# Altium footprint library PcbLib.PcbLib: 71 footprints (part 3 of 6)
Each footprint in its own frame and in the unit in brackets; x right, y up, seen from the top. Pads: shape width x height; smd on the part's side, far side on the other; paste and mask are expansions set on the pad; w line width, h text height; cw(c..) or ccw(c..) is an arc to the next point about the centre after c.
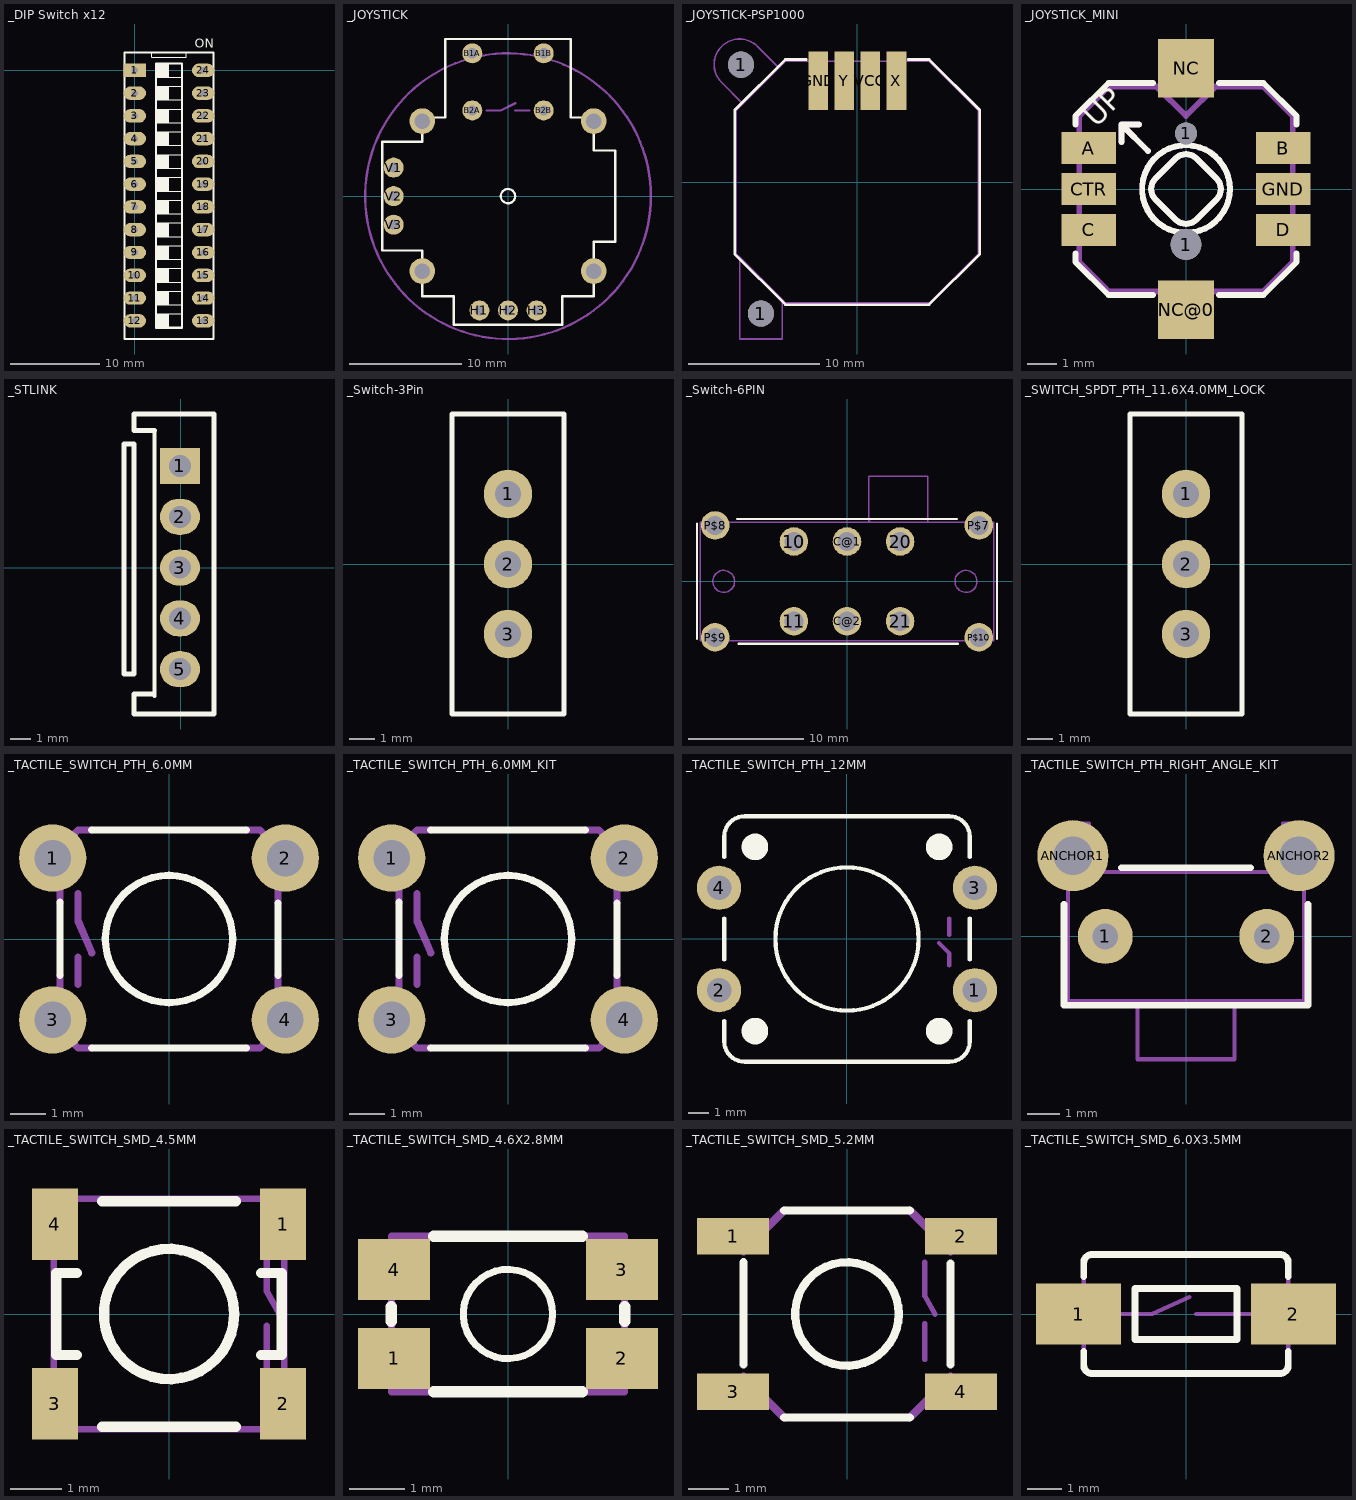
[diagram p2: the footprints below, top view; thin cyan lines are the x and y axes]

## _DIP Switch x12 [mm]
pads (24):
  rect 2.5x1.5 hole 0.7: 1(0,0)
  oval 2.5x1.5 hole 0.7: 2(0,-2.54) 3(0,-5.08) 4(0,-7.62) 5(0,-10.16) 6(0,-12.7) 7(0,-15.24) 8(0,-17.78) 9(0,-20.32) 10(0,-22.86) 11(0,-25.4) 12(0,-27.94) 13(7.62,-27.94) 14(7.62,-25.4) 15(7.62,-22.86) 16(7.62,-20.32) 17(7.62,-17.78) 18(7.62,-15.24) 19(7.62,-12.7) 20(7.62,-10.16) 21(7.62,-7.62) 22(7.62,-5.08) 23(7.62,-2.54) 24(7.62,0)
Top Overlay:
  region: 3.808,0.762 2.362,0.762 2.362,-0.762 3.808,-0.762
  region: 3.808,-1.778 2.362,-1.778 2.362,-3.302 3.808,-3.302
  region: 3.808,-4.318 2.362,-4.318 2.362,-5.842 3.808,-5.842
  region: 3.808,-6.858 2.362,-6.858 2.362,-8.382 3.808,-8.382
  region: 3.808,-9.398 2.362,-9.398 2.362,-10.922 3.808,-10.922
  region: 3.808,-11.938 2.362,-11.938 2.362,-13.462 3.808,-13.462
  region: 3.808,-14.478 2.362,-14.478 2.362,-16.002 3.808,-16.002
  region: 3.808,-17.018 2.362,-17.018 2.362,-18.542 3.808,-18.542
  region: 3.808,-19.558 2.362,-19.558 2.362,-21.082 3.808,-21.082
  region: 3.808,-22.098 2.362,-22.098 2.362,-23.622 3.808,-23.622
  region: 3.808,-24.638 2.362,-24.638 2.362,-26.162 3.808,-26.162
  region: 3.808,-27.178 2.362,-27.178 2.362,-28.702 3.808,-28.702
  lines w0.1: 2.362,-28.702 5.253,-28.702 ; 2.362,-27.178 5.253,-27.178 ; 2.362,-26.162 5.253,-26.162 ; 2.362,-24.638 5.253,-24.638 ; 2.362,-23.622 5.253,-23.622 ; 2.362,-22.098 5.253,-22.098 ; 2.362,-21.082 5.253,-21.082 ; 2.362,-19.558 5.253,-19.558 ; 2.362,-18.542 5.253,-18.542 ; 2.362,-17.018 5.253,-17.018 ; 2.362,-16.002 5.253,-16.002 ; 2.362,-14.478 5.253,-14.478 ; 2.362,-13.462 5.253,-13.462 ; 2.362,-11.938 5.253,-11.938 ; 2.362,-10.922 5.253,-10.922 ; 2.362,-9.398 5.253,-9.398 ; 2.362,-8.382 5.253,-8.382 ; 2.362,-6.858 5.253,-6.858 ; 2.362,-5.842 5.253,-5.842 ; 2.362,-4.318 5.253,-4.318 ; 2.362,-3.302 5.253,-3.302 ; 2.362,-1.778 5.253,-1.778 ; 2.362,-0.762 5.253,-0.762
  lines w0.127: 1.9,1.981 1.9,1.473 5.71,1.473 5.71,1.981
  lines w0.2: -1.143,-29.972 -1.143,1.981 8.763,1.981 8.763,-29.972 -1.143,-29.972
  lines w0.254: 2.362,-28.702 5.253,-28.702 5.253,0.762 2.362,0.762 2.362,-28.702
  text "ON" at 6.7,2.5 h1
Mechanical 1:
  circle w0.025: c0,-17.78 r0.254
  circle w0.025: c7.62,-17.78 r0.254
  circle w0.025: c0,-15.24 r0.254
  circle w0.025: c0,-12.7 r0.254
  circle w0.025: c7.62,-12.7 r0.254
  circle w0.025: c7.62,-10.16 r0.254
  circle w0.025: c0,-10.16 r0.254
  circle w0.025: c0,0 r0.254
  circle w0.025: c-0.01,-2.54 r0.254
  circle w0.025: c0,-5.08 r0.254
  circle w0.025: c0,-7.62 r0.254
  circle w0.025: c7.62,-7.62 r0.254
  circle w0.025: c7.62,-5.08 r0.254
  circle w0.025: c7.62,-2.54 r0.254
  circle w0.025: c7.62,0 r0.254
3D body: height 0.76, standoff 0, extent 7.367,-20.573 7.873,-20.067
3D body: height 0.76, standoff 0, extent 7.367,-23.113 7.873,-22.607
3D body: height 0.76, standoff 0, extent 7.367,-25.653 7.873,-25.147
3D body: height 0.76, standoff 0, extent 7.367,-28.193 7.873,-27.687
3D body: height 0.76, standoff 0, extent -0.253,-28.193 0.253,-27.687
3D body: height 0.76, standoff 0, extent -0.253,-25.653 0.253,-25.147
3D body: height 0.76, standoff 0, extent -0.253,-23.113 0.253,-22.607
3D body: height 0.76, standoff 0, extent -0.253,-20.573 0.253,-20.067
3D body: height 0.76, standoff 0, extent -0.253,-18.033 0.253,-17.527
3D body: height 0.76, standoff 0, extent -0.253,-15.493 0.253,-14.987
3D body: height 0.76, standoff 0, extent -0.253,-12.953 0.253,-12.447
3D body: height 0.76, standoff 0, extent -0.253,-10.413 0.253,-9.907
3D body: height 0.76, standoff 0, extent 7.367,-12.953 7.873,-12.447
3D body: height 0.76, standoff 0, extent 7.367,-18.033 7.873,-17.527
3D body: height 0.76, standoff 0, extent 7.367,-15.493 7.873,-14.987
3D body: height 6.35, standoff 0.25, extent 2.362,-0.762 3.073,0.762
3D body: height 0.76, standoff 0, extent 7.367,-0.253 7.873,0.253
3D body: height 0.76, standoff 0, extent 7.367,-2.793 7.873,-2.287
3D body: height 0.76, standoff 0, extent 7.367,-5.333 7.873,-4.827
3D body: height 0.76, standoff 0, extent 7.367,-7.873 7.873,-7.367
3D body: height 0.76, standoff 0, extent -0.253,-0.253 0.253,0.253
3D body: height 0.76, standoff 0, extent -0.263,-2.793 0.243,-2.287
3D body: height 0.76, standoff 0, extent -0.253,-5.333 0.253,-4.827
3D body: height 0.76, standoff 0, extent -0.253,-7.873 0.253,-7.367
3D body: height 6.35, standoff 0.25, extent 2.362,-5.842 3.073,-4.318
3D body: height 6.35, standoff 0.25, extent 2.362,-8.382 3.073,-6.858
3D body: height 6.35, standoff 0.25, extent 2.362,-3.302 3.073,-1.778
3D body: height 6.35, standoff 0.25, extent 2.362,-10.922 3.073,-9.398
3D body: height 6.35, standoff 0.25, extent 2.362,-13.462 3.073,-11.938
3D body: height 6.35, standoff 0.25, extent 2.362,-16.002 3.073,-14.478
3D body: height 6.35, standoff 0.25, extent 2.362,-18.542 3.073,-17.018
3D body: height 6.35, standoff 0.25, extent 2.362,-21.082 3.073,-19.558
3D body: height 6.35, standoff 0.25, extent 2.362,-23.622 3.073,-22.098
3D body: height 6.35, standoff 0.25, extent 2.362,-26.162 3.073,-24.638
3D body: height 6.35, standoff 0.25, extent 2.362,-28.702 3.073,-27.178
3D body: height 5.59, standoff 0.25, extent 6.005,-0.662 7.579,0.956
3D body: height 5.59, standoff 0.03, extent 6.09,-0.254 7.507,0.554
3D body: height 5.59, standoff 0.25, extent 6.015,-2.365 7.567,-0.799

## _JOYSTICK [mil]
pads (14):
  round 70 hole 35.43: B1A(-125,500) B1B(125,500) B2A(-125,300) B2B(125,300)
  round 70 hole 35: H1(-100,-400) H2(0,-400) H3(100,-400) V1(-400,100) V2(-400,0) V3(-400,-100)
  round 90 hole 55: MOUNT1(-300,262.5) MOUNT2(-300,-262.5) MOUNT3(300,-262.5) MOUNT4(300,262.5)
Top Overlay:
  circle w8: c0,0 r25
  lines w8: -440,-190 -300,-190 -300,-350 -190,-350 -190,-450 190,-450 190,-350 300,-350 300,-160 375,-160 375,160 300,160 300,275 220,275 220,550 -220,550 -220,275 -300,275 -300,190 -440,190 -440,-190
Mechanical 16:
  circle w8: c0,0 r500
  lines w8: -75,300 -25,300 25,325 ; 25,300 75,300

## _JOYSTICK-PSP1000 [mm]
pads (6):
  round 2 hole 2: 1(-8.89,8.985) 1(-7.375,-10.06)
  rect 1.5x4.5 smd: GND(-3,7.75) VCC(1,7.75) X(3,7.75) Y(-1,7.75)
Top Overlay:
  lines w0.203: -3.898,9.377 -5.5,9.377 -9.377,5.5 -9.377,-5.5 -5.5,-9.377 5.5,-9.377 9.377,-5.5 9.377,5.5 5.5,9.377 3.898,9.377
Mechanical 16:
  lines w0.127: -10.4,7.658 -8.75,6 ; -10.381,7.631 cw(c-9.006,9.006) -7.631,10.381 ; -7.65,10.408 -6,8.75 ; -9,-5.75 -9,-12 -5.75,-12 -5.75,-9 ; -9,-5.75 -5.75,-9 ; -9,-5.75 -9.25,-5.5 -9.25,5.5 -8.75,6 ; -8.75,6 -6,8.75 ; -6,8.75 -5.5,9.25 5.5,9.25 9.25,5.5 9.25,-5.5 5.5,-9.25 -5.5,-9.25 -5.75,-9

## _JOYSTICK_MINI [mm]
pads (10):
  round 1.05 hole 1.05: 1(0,-1.9)
  round 0.75 hole 0.75: 1(0,1.9)
  rect 1.85x1.1 smd: A(-3.325,1.4) B(3.325,1.4) C(-3.325,-1.4) CTR(-3.325,0) D(3.325,-1.4) GND(3.325,0)
  rect 1.9x2 smd: NC(0,4.13) NC@0(0,-4.13)
Top Overlay:
  circle w0.203: c0,0 r1.5
  lines w0.203: -3.777,-2.199 -3.777,-2.5 -2.65,-3.627 -1.127,-3.627 ; -3.777,2.199 -3.777,2.5 -2.65,3.627 -1.127,3.627 ; -2.2,1.6 -2.2,2.2 ; -1.6,2.2 -2.2,2.2 ; -1.3,1.3 -2.2,2.2 ; 1.127,-3.627 2.65,-3.627 3.777,-2.5 3.777,-2.199 ; 1.127,3.627 2.65,3.627 3.777,2.5 3.777,2.199 ; -1.046,-0.354 cw(c-0.693,0) -1.046,0.354 -0.354,1.046 cw(c0,0.693) 0.354,1.046 1.046,0.354 cw(c0.693,0) 1.046,-0.354 0.354,-1.046 cw(c0,-0.693) -0.354,-1.046 -1.046,-0.354
  text "UP" at -2.9,1.9 h1.26
Mechanical 16:
  circle w0.203: c0,0 r1.5
  lines w0.203: -2.2,1.6 -2.2,2.2 ; -1.6,2.2 -2.2,2.2 ; -1.3,1.3 -2.2,2.2 ; -1,3.5 1,3.5 ; -1,3.5 0,2.5 1,3.5 ; -1,3.5 -2.65,3.5 -3.65,2.5 -3.65,-2.5 -2.65,-3.5 2.65,-3.5 3.65,-2.5 3.65,2.5 2.65,3.5 1,3.5 ; -1.046,-0.354 cw(c-0.693,0) -1.046,0.354 -0.354,1.046 cw(c0,0.693) 0.354,1.046 1.046,0.354 cw(c0.693,0) 1.046,-0.354 0.354,-1.046 cw(c0,-0.693) -0.354,-1.046 -1.046,-0.354
  text "UP" at -2.9,1.9 h1.26

## _STLINK [mm]
pads (5):
  rect 2x1.8 hole 1.1: 1(-0.025,5.08)
  oval 2x1.8 hole 1.1: 2(-0.025,2.54) 3(-0.025,0) 4(-0.025,-2.54) 5(-0.025,-5.08)
Top Overlay:
  lines w0.2: -1.295,-6.42 -1.295,4.945 -1.295,6.85
  lines w0.25: -1.325,-6.32 -2.325,-6.32 -2.325,-7.32 1.675,-7.32 1.675,7.68 -2.325,7.68 -2.325,6.85 -1.295,6.85 ; -2.825,-5.32 -2.325,-5.32 -2.325,6.18 -2.825,6.18 -2.825,-5.32

## _Switch-3Pin [mil]
pads (3):
  round 74 hole 40: 1(0,107) 2(0,0) 3(0,-107)
Top Overlay:
  lines w8: -85.63,-228.94 -85.63,228.94 85.63,228.94 85.63,-228.94 -85.63,-228.94
Top Solder:
  region: 0,89.6 -3.4,89.52 -9.75,91.98 -14.67,96.67 -17.42,102.9 -17.5,106.3 -17.59,109.87 -15.02,116.54 -10.1,121.71 -3.57,124.61 0,124.7 3.52,124.64 9.98,121.84 14.88,116.77 17.46,110.22 17.4,106.7 17.37,103.27 14.69,96.95 9.79,92.14 3.43,89.57
  region: 0.1,-124.6 -3.3,-124.68 -9.65,-122.22 -14.57,-117.53 -17.32,-111.3 -17.4,-107.9 -17.49,-104.33 -14.92,-97.66 -10,-92.49 -3.47,-89.59 0.1,-89.5 3.62,-89.56 10.08,-92.36 14.98,-97.43 17.56,-103.98 17.5,-107.5 17.47,-110.93 14.79,-117.25 9.89,-122.06 3.53,-124.63
  region: 0.4,-17.6 -3,-17.68 -9.35,-15.22 -14.27,-10.53 -17.02,-4.3 -17.1,-0.9 -17.19,2.67 -14.62,9.34 -9.7,14.51 -3.17,17.41 0.4,17.5 3.92,17.44 10.38,14.64 15.28,9.57 17.86,3.02 17.8,-0.5 17.77,-3.93 15.09,-10.25 10.19,-15.06 3.83,-17.63
Bottom Solder:
  region: -0.7,72.5 -4.03,72.49 -10.56,73.77 -16.72,76.3 -22.27,79.98 -26.99,84.67 -30.7,90.2 -33.27,96.34 -34.58,102.87 -34.59,106.2 -34.62,109.63 -33.35,116.38 -30.79,122.75 -27.04,128.49 -22.23,133.39 -16.56,137.27 -10.25,139.96 -3.53,141.37 -0.1,141.4 3.33,141.37 10.05,139.96 16.37,137.27 22.04,133.4 26.84,128.49 30.6,122.75 33.16,116.38 34.43,109.63 34.4,106.2 34.33,102.81 32.88,96.19 30.16,89.98 26.28,84.42 21.39,79.73 15.68,76.08 9.36,73.62 2.69,72.43
  region: -0.2,-141.6 -3.55,-141.64 -10.13,-140.41 -16.35,-137.92 -21.96,-134.27 -26.76,-129.59 -30.54,-124.06 -33.18,-117.9 -34.56,-111.35 -34.6,-108 -34.63,-104.51 -33.33,-97.66 -30.72,-91.2 -26.89,-85.36 -22,-80.39 -16.24,-76.47 -9.82,-73.75 -2.99,-72.33 0.5,-72.3 3.94,-72.37 10.67,-73.86 16.97,-76.63 22.61,-80.58 27.38,-85.55 31.08,-91.36 33.58,-97.78 34.77,-104.56 34.7,-108 34.64,-111.37 33.2,-117.97 30.5,-124.15 26.64,-129.69 21.78,-134.37 16.1,-138.01 9.82,-140.48 3.17,-141.67
  region: -0.4,-34.4 -3.73,-34.43 -10.28,-33.17 -16.46,-30.67 -22.04,-27 -26.79,-22.32 -30.53,-16.81 -33.13,-10.66 -34.48,-4.13 -34.5,-0.8 -34.52,2.67 -33.19,9.49 -30.56,15.92 -26.73,21.71 -21.84,26.64 -16.08,30.52 -9.68,33.2 -2.87,34.59 0.6,34.6 3.98,34.55 10.6,33.12 16.81,30.43 22.38,26.58 27.09,21.72 30.76,16.04 33.25,9.74 34.46,3.08 34.41,-0.3 34.38,-3.69 32.98,-10.34 30.32,-16.58 26.5,-22.19 21.65,-26.94 15.96,-30.65 9.66,-33.18 2.99,-34.44
Mechanical 16:
  rectangle: -9,-12 9,12
  rectangle: -9,88 9,112
  rectangle: -9,-112 9,-88

## _Switch-6PIN [mm]
pads (10):
  round 2.475 hole 1.65: 10(-4.6,3.455) 11(-4.6,-3.455) 20(4.6,3.455) 21(4.6,-3.455) C@1(0,3.455) C@2(0,-3.455) P$7(11.43,4.85) P$8(-11.43,4.85) P$9(-11.43,-4.85) P$10(11.43,-4.85)
Top Overlay:
  lines w0.203: -13,-5 -13,5 ; -9.5,5.4 9.5,5.4 ; -9.4,-5.4 9.6,-5.4 ; 13,-5 13,5
Mechanical 16:
  circle w0.127: c10.31,0 r0.952
  circle w0.127: c-10.69,0 r0.952
  lines w0.127: 2,5.2 1.9,5.2 1.9,9.1 7,9.1 7,5.2 ; -12.7,-5.13 -12.7,5.13 12.7,5.13 12.7,-5.13 -12.7,-5.13

## _SWITCH_SPDT_PTH_11.6X4.0MM_LOCK [mil]
pads (3):
  round 74 hole 40: 1(0,107) 2(0,0) 3(0,-107)
Top Overlay:
  lines w8: -85.63,-228.94 -85.63,228.94 85.63,228.94 85.63,-228.94 -85.63,-228.94
Mechanical 16:
  rectangle: -9,-12 9,12
  rectangle: -9,88 9,112
  rectangle: -9,-112 9,-88

## _TACTILE_SWITCH_PTH_6.0MM [mil]
pads (4):
  round 74 hole 40: 1(-128,89) 2(128,89) 3(-128,-89) 4(128,-89)
Top Overlay:
  circle w8: c0,0 r70
  lines w8: -120,-40 -120,40.47 ; -85,-120 85,-120 ; -85,120 85,120 ; 120,-40 120,39.29
Mechanical 16:
  lines w8: -120,-40 -120,-100 -100,-120 -85,-120 ; -120,40 -120,100 -100,120 -85,120 ; -100,-50 -100,-20 ; -100,50 -100,20 -85,-15 ; 85,-120 100,-120 120,-100 120,-40 ; 85,120 100,120 120,100 120,40

## _TACTILE_SWITCH_PTH_6.0MM_KIT [mil]
pads (4):
  round 74 hole 40: 1(-128,89) 2(128,89) 3(-128,-89) 4(128,-89)
Top Overlay:
  circle w8: c0,0 r70
  lines w8: -120,-40 -120,40.47 ; -85,-120 85,-120 ; -85,120 85,120 ; 120,-40 120,39.29
Top Solder:
  region: 128.4,-71.8 127.9,-71.7 124.53,-71.71 118.31,-74.31 113.55,-79.09 110.99,-85.33 111,-88.7 111,-89.1 110.96,-92.52 113.51,-98.87 118.29,-103.77 124.58,-106.46 128,-106.5 129.2,-106.6 132.58,-106.48 138.74,-103.67 143.35,-98.72 145.72,-92.38 145.6,-89 145.6,-89.2 145.62,-85.76 143.02,-79.38 138.18,-74.49 131.84,-71.82
  region: -127.6,-71.9 -128.1,-71.8 -131.47,-71.81 -137.69,-74.41 -142.45,-79.19 -145.01,-85.43 -145,-88.8 -145,-89.2 -145.04,-92.62 -142.49,-98.97 -137.71,-103.86 -131.42,-106.55 -128,-106.59 -126.8,-106.7 -123.42,-106.58 -117.26,-103.77 -112.64,-98.82 -110.28,-92.47 -110.4,-89.09 -110.4,-89.3 -110.38,-85.86 -112.98,-79.48 -117.81,-74.59 -124.16,-71.92
  region: 128.4,106.3 127.9,106.4 124.53,106.39 118.31,103.79 113.55,99.01 110.99,92.77 111,89.4 111,89 110.96,85.58 113.51,79.23 118.29,74.34 124.58,71.65 128,71.61 129.2,71.5 132.58,71.62 138.74,74.43 143.36,79.38 145.72,85.73 145.6,89.11 145.6,88.9 145.62,92.34 143.02,98.72 138.18,103.61 131.84,106.28
  region: -127.8,106.4 -128.3,106.5 -131.67,106.49 -137.89,103.89 -142.65,99.11 -145.21,92.87 -145.2,89.5 -145.2,89.1 -145.24,85.68 -142.69,79.33 -137.91,74.43 -131.62,71.74 -128.2,71.7 -127,71.6 -123.62,71.72 -117.46,74.53 -112.85,79.48 -110.48,85.82 -110.6,89.2 -110.6,89 -110.58,92.44 -113.18,98.82 -118.02,103.71 -124.36,106.38
Bottom Solder:
  drawing of 4 lines, arcs and shapes, not listed
Mechanical 16:
  lines w8: -120,-40 -120,-100 -100,-120 -85,-120 ; -120,40 -120,100 -100,120 -85,120 ; -100,-50 -100,-20 ; -100,50 -100,20 -85,-15 ; 85,-120 100,-120 120,-100 120,-40 ; 85,120 100,120 120,100 120,40

## _TACTILE_SWITCH_PTH_12MM [mil]
pads (4):
  round 85 hole 47.24: 1(246.06,-98.43) 2(-246.06,-98.43) 3(246.06,98.43) 4(-246.06,98.43)
Top Overlay:
  circle w8: c0,0 r137.8
  circle w27.56: c-177.17,177.17 r11.81
  circle w27.56: c177.17,177.17 r11.81
  circle w27.56: c177.17,-177.17 r11.81
  circle w27.56: c-177.17,-177.17 r11.81
  lines w8: -236.22,-157.48 -236.22,-196.85 ccw(c-196.85,-196.85) -196.85,-236.22 196.85,-236.22 ccw(c196.85,-196.85) 236.22,-196.85 236.22,-157.48 ; -236.22,-39.37 -236.22,39.37 ; -236.22,157.48 -236.22,196.85 cw(c-196.85,196.85) -196.85,236.22 196.85,236.22 cw(c196.85,196.85) 236.22,196.85 236.22,157.48 ; 236.22,-39.37 236.22,39.37
Mechanical 16:
  lines w8: 177.17,-7.87 196.85,-27.56 196.85,-51.18 ; 196.85,7.87 196.85,39.37

## _TACTILE_SWITCH_PTH_RIGHT_ANGLE_KIT [mil]
pads (4):
  round 66.93 hole 31.5: 1(-98.43,0) 2(98.43,0)
  round 86.61 hole 47.24: ANCHOR1(-137.8,98.43) ANCHOR2(137.8,98.43)
Top Overlay:
  lines w8: -148.7,39.37 -148.7,-83.74 148.7,-83.74 148.7,39.37 ; -78.74,83.74 78.74,83.74
Top Solder:
  circle w0: c98.43,0 r17.5
  circle w0: c-98.43,0 r17.5
  circle w0: c-137.8,98.43 r25
  circle w0: c137.8,98.43 r25
Bottom Solder:
  circle w0: c-137.8,98.43 r45
  circle w0: c98.43,0 r35
  circle w0: c-98.43,0 r35
  circle w0: c137.8,98.43 r45
Mechanical 16:
  lines w5: -59.06,-78.74 -143.7,-78.74 -143.7,137.8 -118.11,137.8 -118.11,78.74 118.11,78.74 118.11,137.8 143.7,137.8 143.7,-78.74 59.06,-78.74 ; -59.06,-78.74 59.06,-78.74 ; -59.06,-78.74 -59.06,-149.61 59.06,-149.61 59.06,-78.74

## _TACTILE_SWITCH_SMD_4.5MM [mm]
pads (4):
  rect 0.9x1.4 smd: 1(2.225,1.75) 2(2.225,-1.75) 3(-2.225,-1.75) 4(-2.225,1.75)
Top Overlay:
  circle w0.203: c0,0 r1.27
  lines w0.203: -1.8,-0.8 -2.2,-0.8 -2.2,0.8 -1.8,0.8 ; -1.3,-2.2 1.3,-2.2 ; -1.3,2.2 1.3,2.2 ; 1.8,-0.8 2.2,-0.8 2.2,0.8 1.8,0.8
Mechanical 16:
  lines w0.127: 1.905,-1.115 1.905,-0.23 ; 1.905,1.27 1.905,0.445 2.16,-0.01 ; -2.25,-2.25 -2.25,2.25 2.25,2.25 2.25,-2.25 -2.25,-2.25

## _TACTILE_SWITCH_SMD_4.6X2.8MM [mm]
pads (4):
  rect 1.3x1.1 smd: 1(-2.05,-0.8) 2(2.05,-0.8) 3(2.05,0.8) 4(-2.05,0.8)
Top Overlay:
  circle w0.127: c0,0 r0.805
  lines w0.203: -2.1,-0.13 -2.1,0.13 ; -1.338,-1.4 1.338,-1.4 ; -1.338,1.4 1.338,1.4 ; 2.1,-0.13 2.1,0.13
Mechanical 16:
  rectangle: -2.3,0.5 -2.1,1.1
  rectangle: -2.3,-1.1 -2.1,-0.5
  region: 2.3,-0.5 2.1,-0.5 2.1,-1.1 2.3,-1.1
  region: 2.3,1.1 2.1,1.1 2.1,0.5 2.3,0.5
  lines w0.127: -2.1,-1.4 -2.1,1.4 2.1,1.4 2.1,-1.4 -2.1,-1.4

## _TACTILE_SWITCH_SMD_5.2MM [mm]
pads (4):
  rect 1.77x0.9 smd: 1(-2.794,1.905) 2(2.794,1.905) 3(-2.794,-1.905) 4(2.794,-1.905)
Top Overlay:
  circle w0.203: c0,0 r1.27
  lines w0.203: -2.54,-1.24 -2.54,1.27 ; -1.54,-2.54 1.54,-2.54 ; -1.54,2.54 1.54,2.54 ; 2.54,-1.24 2.54,1.24
Mechanical 16:
  lines w0.127: 1.905,-1.115 1.905,-0.23 ; 1.905,1.27 1.905,0.445 2.16,-0.01
  lines w0.203: -2.54,-1.54 -1.54,-2.54 ; -2.54,1.54 -1.54,2.54 ; 1.54,-2.54 2.54,-1.54 ; 1.54,2.54 2.54,1.54

## _TACTILE_SWITCH_SMD_6.0X3.5MM [mm]
pads (2):
  rect 2.5x1.8 smd: 1(-3.15,0) 2(3.15,0)
Top Overlay:
  lines w0.203: -3,-1.1 -3,-1.5 ccw(c-2.75,-1.5) -2.75,-1.75 2.75,-1.75 ccw(c2.75,-1.5) 3,-1.5 3,-1.1 ; -3,1.1 -3,1.5 cw(c-2.75,1.5) -2.75,1.75 2.75,1.75 cw(c2.75,1.5) 3,1.5 3,1.1 ; -1.5,-0.75 1.5,-0.75 1.5,0.75 -1.5,0.75 -1.5,-0.75
Mechanical 16:
  lines w0.127: -3,-1.1 -3,1.1 ; -2,0 -1,0 0.1,0.5 ; 0.3,0 2,0 ; 3,-1.1 3,1.1